# Altium integrated library Celestial Library.IntLib: 364 symbols (part 1 of 4)
Pins are listed as number, name and electrical type; pins without a type are passive.

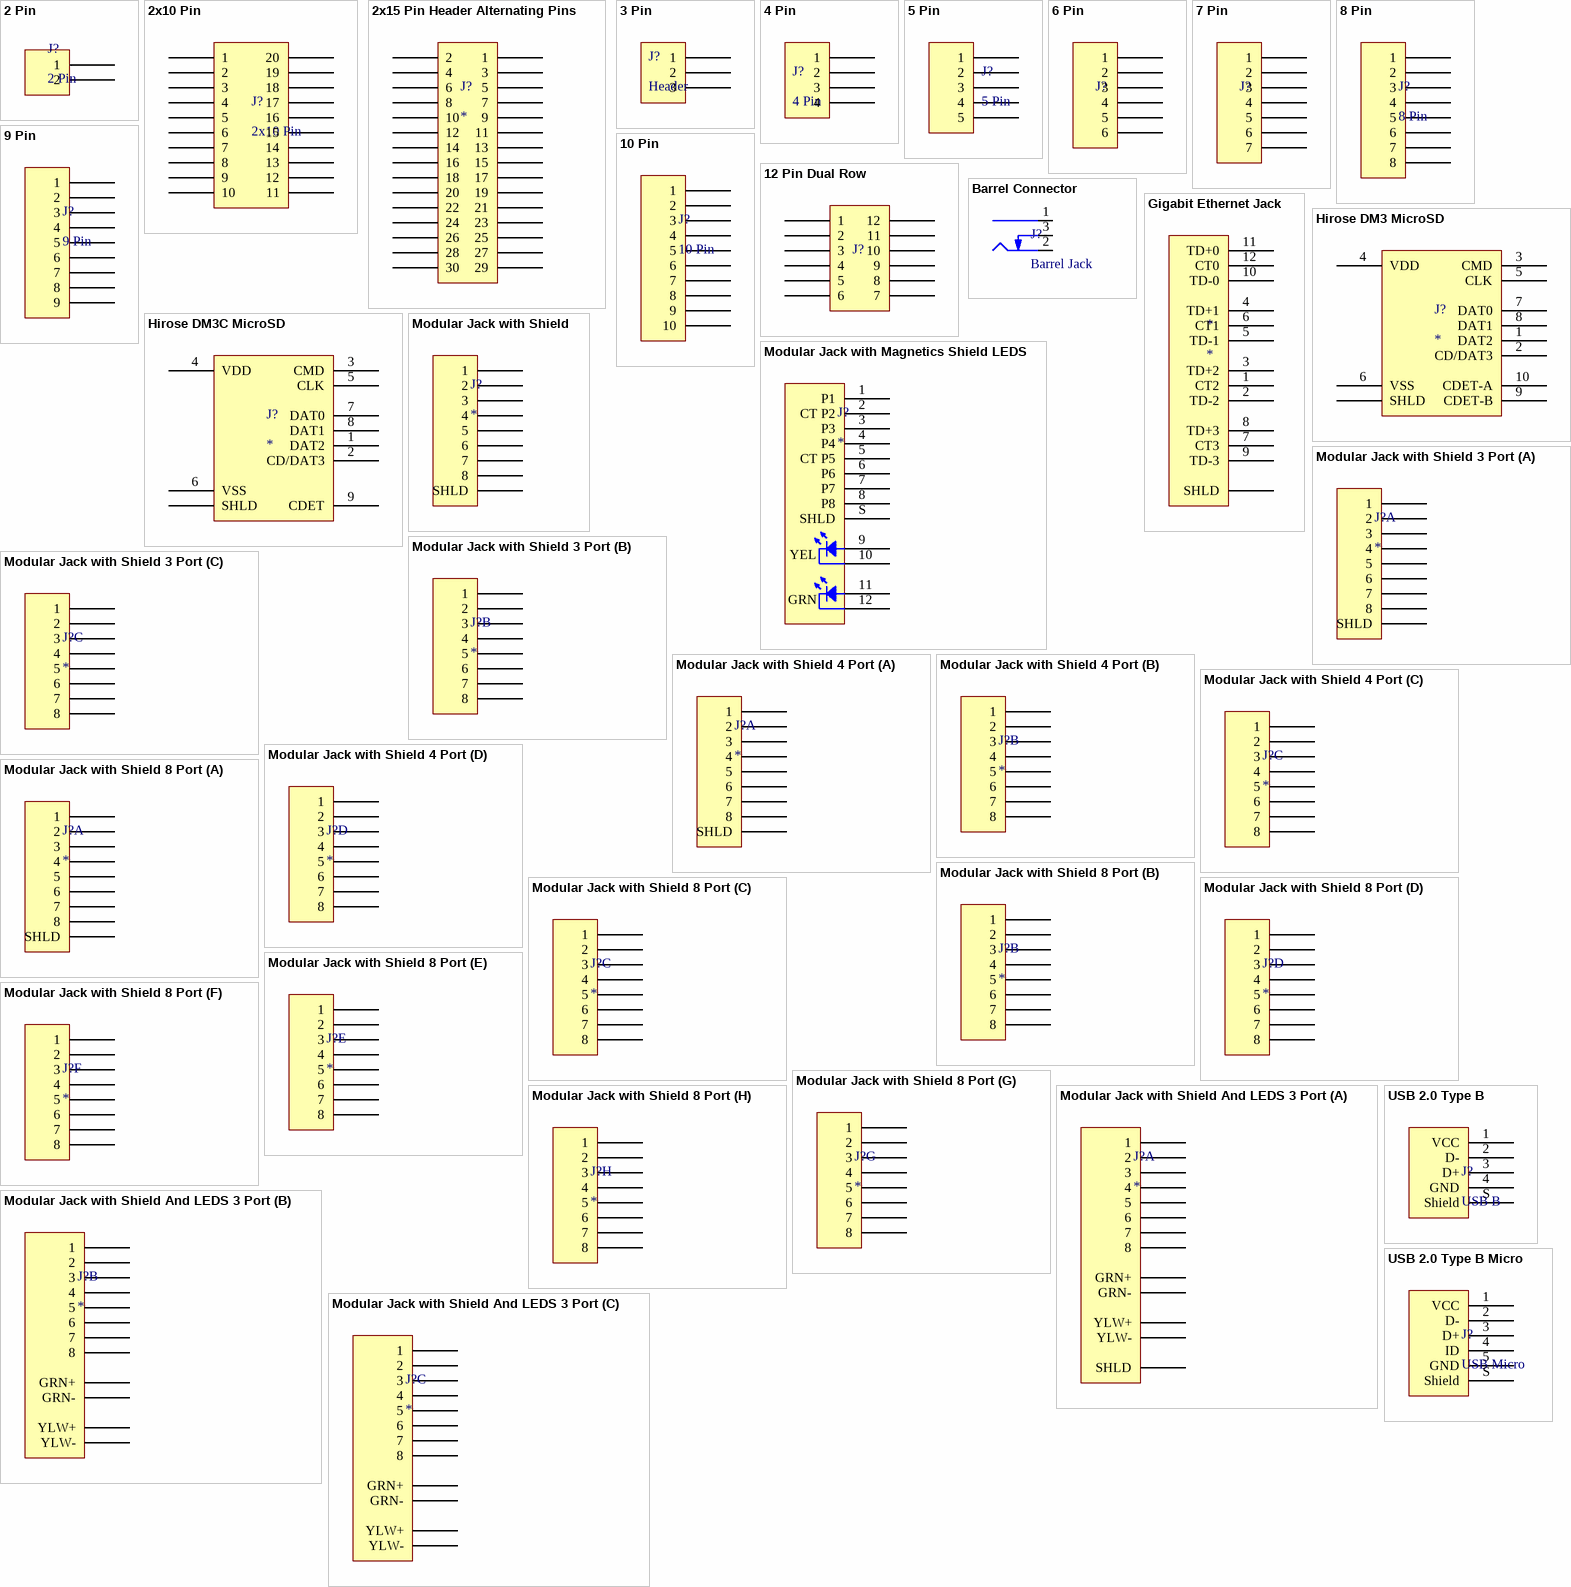
[diagram p0: symbols 2 Pin to USB 2.0 Type B Micro]

## 2 Pin
designator J?
pins: 1, 2

## 2x10 Pin
designator J?
pins: 1, 2, 3, 4, 5, 6, 7, 8, 9, 10, 11, 12, 13, 14, 15, 16, 17, 18, 19, 20

## 2x15 Pin Header Alternating Pins
designator J?
pins: 1, 2, 3, 4, 5, 6, 7, 8, 9, 10, 11, 12, 13, 14, 15, 16, 17, 18, 19, 20, 21, 22, 23, 24, 25, 26, 27, 28, 29, 30

## 3 Pin
designator J?, comment Header
pins: 1, 2, 3

## 4 Pin
designator J?
pins: 1, 2, 3, 4

## 5 Pin
designator J?
pins: 1, 2, 3, 4, 5

## 6 Pin
designator J?
pins: 1, 2, 3, 4, 5, 6

## 7 Pin
designator J?
pins: 1, 2, 3, 4, 5, 6, 7

## 8 Pin
designator J?
pins: 1, 2, 3, 4, 5, 6, 7, 8

## 9 Pin
designator J?
pins: 1, 2, 3, 4, 5, 6, 7, 8, 9

## 10 Pin
designator J?
pins: 1, 2, 3, 4, 5, 6, 7, 8, 9, 10

## 12 Pin Dual Row
designator J?
pins: 1, 2, 3, 4, 5, 6, 7, 8, 9, 10, 11, 12

## Barrel Connector
designator J?, comment Barrel Jack
pins: 1 Centre, 2 Outer, 3 SW

## Gigabit Ethernet Jack
designator *
pins: 1 CT2, 2 TD-2, 3 TD+2, 4 TD+1, 5 TD-1, 6 CT1, 7 CT3, 8 TD+3, 9 TD-3, 10 TD-0, 11 TD+0, 12 CT0, S SHLD

## Hirose DM3 MicroSD
designator J?
pins: 1 DAT2, 2 CD/DAT3, 3 CMD, 4 VDD, 5 CLK, 6 VSS, 7 DAT0, 8 DAT1, 9 CDET-B, 10 CDET-A, S SHLD

## Hirose DM3C MicroSD
designator J?
pins: 1 DAT2, 2 CD/DAT3, 3 CMD, 4 VDD, 5 CLK, 6 VSS, 7 DAT0, 8 DAT1, 9 CDET, S SHLD

## Modular Jack with Magnetics Shield LEDS
designator J?
pins: 1 P1, 2 CT P2, 3 P3, 4 P4, 5 CT P5, 6 P6, 7 P7, 8 P8, 9 P9, 10 P10, 11 P11, 12 P12, S SHLD
text: YEL; GRN

## Modular Jack with Shield
designator J?
pins: 1, 2, 3, 4, 5, 6, 7, 8, S SHLD

## Modular Jack with Shield 3 Port
designator J?
part A pins: A1 1, A2 2, A3 3, A4 4, A5 5, A6 6, A7 7, A8 8, S SHLD
part B pins: B1 1, B2 2, B3 3, B4 4, B5 5, B6 6, B7 7, B8 8
part C pins: C1 1, C2 2, C3 3, C4 4, C5 5, C6 6, C7 7, C8 8

## Modular Jack with Shield 4 Port
designator J?
part A pins: A1 1, A2 2, A3 3, A4 4, A5 5, A6 6, A7 7, A8 8, S SHLD
part B pins: B1 1, B2 2, B3 3, B4 4, B5 5, B6 6, B7 7, B8 8
part C pins: C1 1, C2 2, C3 3, C4 4, C5 5, C6 6, C7 7, C8 8
part D pins: D1 1, D2 2, D3 3, D4 4, D5 5, D6 6, D7 7, D8 8

## Modular Jack with Shield 8 Port
designator J?
part A pins: A1 1, A2 2, A3 3, A4 4, A5 5, A6 6, A7 7, A8 8, S SHLD
part B pins: B1 1, B2 2, B3 3, B4 4, B5 5, B6 6, B7 7, B8 8
part C pins: C1 1, C2 2, C3 3, C4 4, C5 5, C6 6, C7 7, C8 8
part D pins: D1 1, D2 2, D3 3, D4 4, D5 5, D6 6, D7 7, D8 8
part E pins: E1 1, E2 2, E3 3, E4 4, E5 5, E6 6, E7 7, E8 8
part F pins: F1 1, F2 2, F3 3, F4 4, F5 5, F6 6, F7 7, F8 8
part G pins: G1 1, G2 2, G3 3, G4 4, G5 5, G6 6, G7 7, G8 8
part H pins: H1 1, H2 2, H3 3, H4 4, H5 5, H6 6, H7 7, H8 8

## Modular Jack with Shield And LEDS 3 Port
designator J?
part A pins: A1 1, A2 2, A3 3, A4 4, A5 5, A6 6, A7 7, A8 8, A9 GRN-, A10 GRN+, A11 YLW-, A12 YLW+, S SHLD
part B pins: B1 1, B2 2, B3 3, B4 4, B5 5, B6 6, B7 7, B8 8, B9 GRN-, B10 GRN+, B11 YLW-, B12 YLW+
part C pins: C1 1, C2 2, C3 3, C4 4, C5 5, C6 6, C7 7, C8 8, C9 GRN-, C10 GRN+, C11 YLW-, C12 YLW+

## USB 2.0 Type B
designator J?, comment USB B
pins: 1 VCC, 2 D-, 3 D+, 4 GND, S Shield

## USB 2.0 Type B Micro
designator J?, comment USB Micro
pins: 1 VCC, 2 D-, 3 D+, 4 ID, 5 GND, S Shield

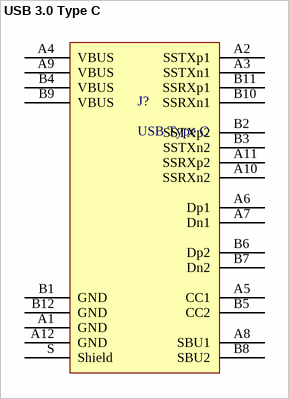
[diagram p1: symbol USB 3.0 Type C]

## USB 3.0 Type C
designator J?, comment USB Type C
pins: A1 GND, A2 SSTXp1, A3 SSTXn1, A4 VBUS, A5 CC1, A6 Dp1, A7 Dn1, A8 SBU1, A9 VBUS, A10 SSRXn2, A11 SSRXp2, A12 GND, B1 GND, B2 SSTXp2, B3 SSTXn2, B4 VBUS, B5 CC2, B6 Dp2, B7 Dn2, B8 SBU2, B9 VBUS, B10 SSRXn1, B11 SSRXp1, B12 GND, S Shield


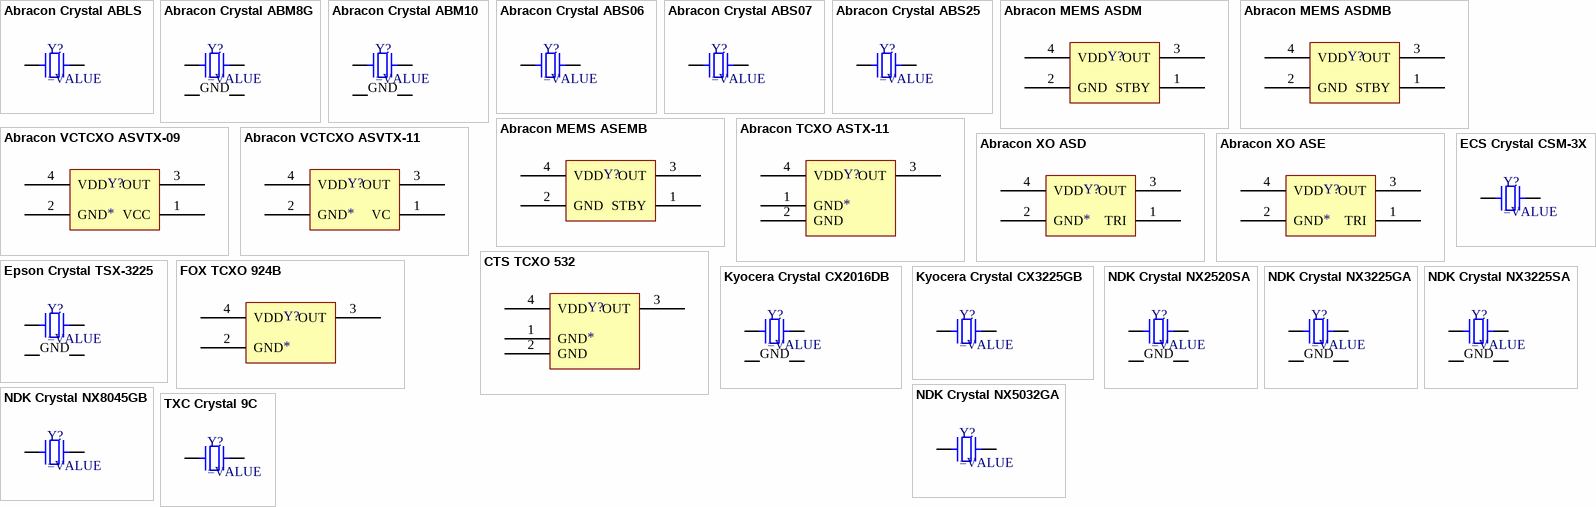
[diagram p2: symbols Abracon Crystal ABLS to TXC Crystal 9C]

## Abracon Crystal ABLS
designator Y?
SMT Crystal
pins: 1, 2

## Abracon Crystal ABM8G
designator Y?
SMT Crystal
pins: 1, 2 GND, 3, 4 GND

## Abracon Crystal ABM10
designator Y?
SMT Crystal
pins: 1, 2 GND, 3, 4 GND

## Abracon Crystal ABS06
designator Y?
SMT Crystal
pins: 1, 2

## Abracon Crystal ABS07
designator Y?
SMT Crystal
pins: 1, 2

## Abracon Crystal ABS25
designator Y?
SMT Crystal
pins: 1, 4

## Abracon MEMS ASDM
designator Y?
Pure Silicon Clock Oscillator
pins: 1 STBY, 2 GND, 3 OUT, 4 VDD

## Abracon MEMS ASDMB
designator Y?
Pure Silicon Clock Oscillator
pins: 1 STBY, 2 GND, 3 OUT, 4 VDD

## Abracon MEMS ASEMB
designator Y?
Pure Silicon Clock Oscillator
pins: 1 STBY, 2 GND, 3 OUT, 4 VDD

## Abracon TCXO ASTX-11
designator Y?
SMD CMOS Crystal Oscillator
pins: 1 GND, 2 GND, 3 OUT, 4 VDD

## Abracon VCTCXO ASVTX-09
designator Y?
SMD CMOS Crystal Oscillator
pins: 1 VCC, 2 GND, 3 OUT, 4 VDD

## Abracon VCTCXO ASVTX-11
designator Y?
SMD CMOS Crystal Oscillator
pins: 1 VC, 2 GND, 3 OUT, 4 VDD

## Abracon XO ASD
designator Y?
SMD CMOS Crystal Oscillator
pins: 1 TRI, 2 GND, 3 OUT, 4 VDD

## Abracon XO ASE
designator Y?
SMD CMOS Crystal Oscillator
pins: 1 TRI, 2 GND, 3 OUT, 4 VDD

## CTS TCXO 532
designator Y?
SMD TCXO
pins: 1 GND, 2 GND, 3 OUT, 4 VDD

## ECS Crystal CSM-3X
designator Y?
SMT Crystal
pins: 1, 2

## Epson Crystal TSX-3225
designator Y?
SMT Crystal
pins: 1, 2 GND, 3, 4 GND

## FOX TCXO 924B
designator Y?
SMD TCXO
pins: 2 GND, 3 OUT, 4 VDD

## Kyocera Crystal CX2016DB
designator Y?
SMT Crystal
pins: 1, 2 GND, 3, 4 GND

## Kyocera Crystal CX3225GB
designator Y?
SMT Crystal
pins: 1, 3

## NDK Crystal NX2520SA
designator Y?
SMT Crystal
pins: 1, 2 GND, 3, 4 GND

## NDK Crystal NX3225GA
designator Y?
SMT Crystal
pins: 1, 2 GND, 3, 4 GND

## NDK Crystal NX3225SA
designator Y?
SMT Crystal
pins: 1, 2 GND, 3, 4 GND

## NDK Crystal NX5032GA
designator Y?
SMT Crystal
pins: 1, 2

## NDK Crystal NX8045GB
designator Y?
SMT Crystal
pins: 1, 2

## TXC Crystal 9C
designator Y?
SMT Crystal
pins: 1, 2


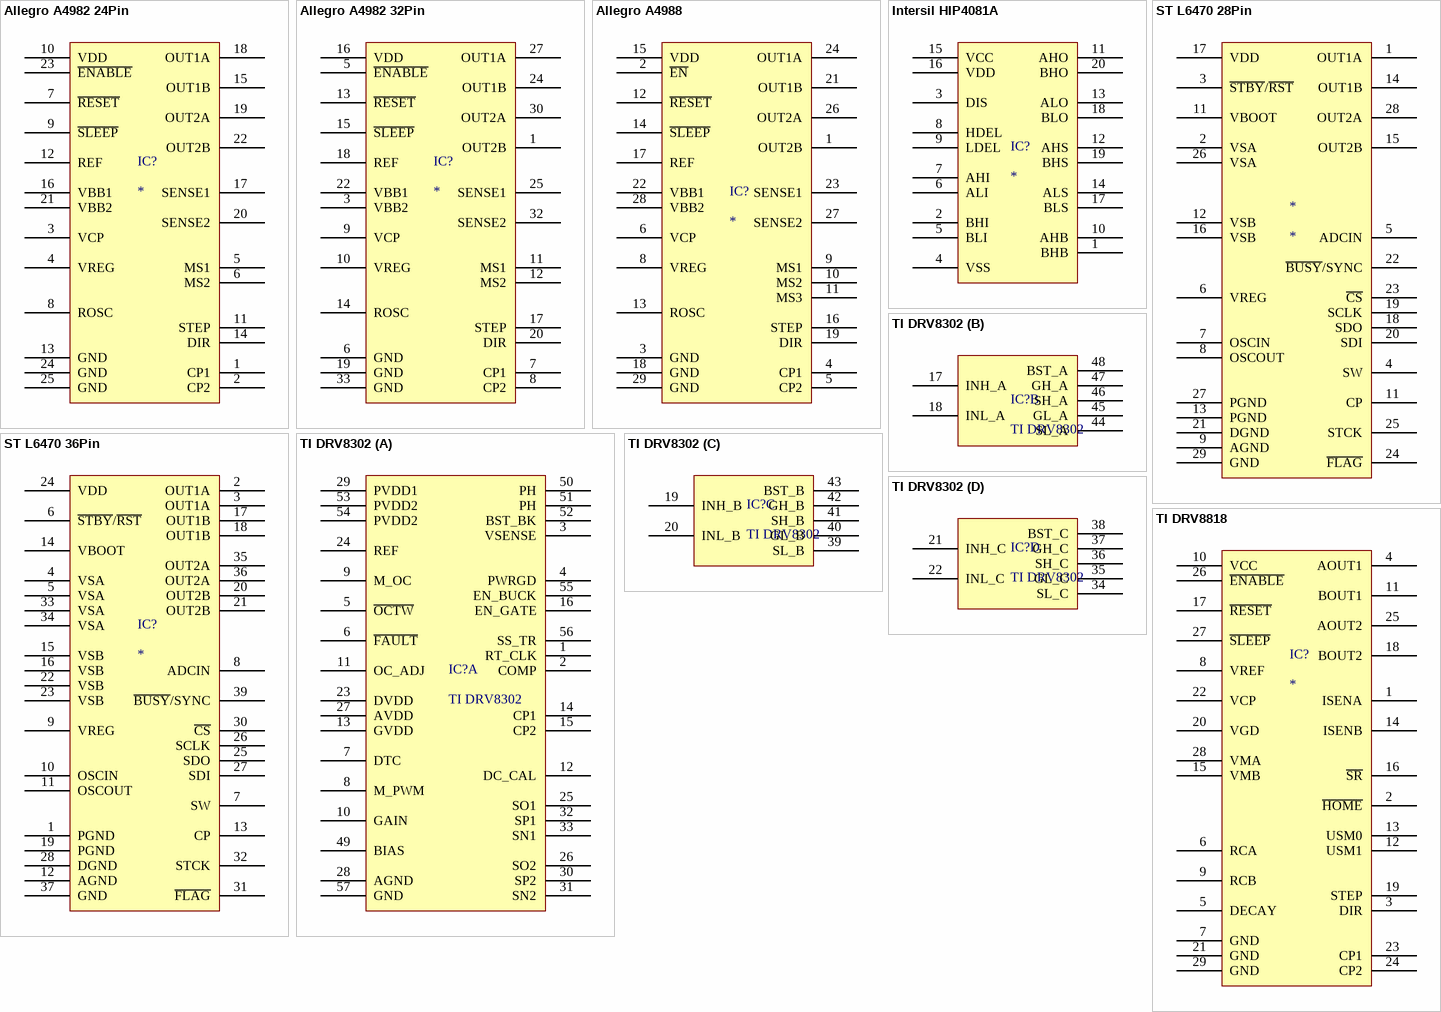
[diagram p3: symbols Allegro A4982 24Pin to TI DRV8818]

## Allegro A4982 24Pin
designator IC?
pins: 1 CP1, 2 CP2, 3 VCP, 4 VREG, 5 MS1, 6 MS2, 7 ~{RESET}, 8 ROSC, 9 ~{SLEEP}, 10 VDD, 11 STEP, 12 REF, 13 GND, 14 DIR, 15 OUT1B, 16 VBB1, 17 SENSE1, 18 OUT1A, 19 OUT2A, 20 SENSE2, 21 VBB2, 22 OUT2B, 23 ~{ENABLE}, 24 GND, 25 GND

## Allegro A4982 32Pin
designator IC?
pins: 1 OUT2B, 3 VBB2, 5 ~{ENABLE}, 6 GND, 7 CP1, 8 CP2, 9 VCP, 10 VREG, 11 MS1, 12 MS2, 13 ~{RESET}, 14 ROSC, 15 ~{SLEEP}, 16 VDD, 17 STEP, 18 REF, 19 GND, 20 DIR, 22 VBB1, 24 OUT1B, 25 SENSE1, 27 OUT1A, 30 OUT2A, 32 SENSE2, 33 GND

## Allegro A4988
designator IC?
pins: 1 OUT2B, 2 ~{EN}, 3 GND, 4 CP1, 5 CP2, 6 VCP, 8 VREG, 9 MS1, 10 MS2, 11 MS3, 12 ~{RESET}, 13 ROSC, 14 ~{SLEEP}, 15 VDD, 16 STEP, 17 REF, 18 GND, 19 DIR, 21 OUT1B, 22 VBB1, 23 SENSE1, 24 OUT1A, 26 OUT2A, 27 SENSE2, 28 VBB2, 29 GND

## Intersil HIP4081A
designator IC?
pins: 1 BHB, 2 BHI, 3 DIS, 4 VSS, 5 BLI, 6 ALI, 7 AHI, 8 HDEL, 9 LDEL, 10 AHB, 11 AHO, 12 AHS, 13 ALO, 14 ALS, 15 VCC, 16 VDD, 17 BLS, 18 BLO, 19 BHS, 20 BHO

## ST L6470 28Pin
designator *
pins: 1 OUT1A, 2 VSA, 3 ~{STBY}/~{RST}, 4 SW, 5 ADCIN, 6 VREG, 7 OSCIN, 8 OSCOUT, 9 AGND, 11 CP, 11 VBOOT, 12 VSB, 13 PGND, 14 OUT1B, 15 OUT2B, 16 VSB, 17 VDD, 18 SDO, 19 SCLK, 20 SDI, 21 DGND, 22 ~{BUSY}/SYNC, 23 ~{CS}, 24 ~{FLAG}, 25 STCK, 26 VSA, 27 PGND, 28 OUT2A, 29 GND

## ST L6470 36Pin
designator IC?
pins: 1 PGND, 2 OUT1A, 3 OUT1A, 4 VSA, 5 VSA, 6 ~{STBY}/~{RST}, 7 SW, 8 ADCIN, 9 VREG, 10 OSCIN, 11 OSCOUT, 12 AGND, 13 CP, 14 VBOOT, 15 VSB, 16 VSB, 17 OUT1B, 18 OUT1B, 19 PGND, 20 OUT2B, 21 OUT2B, 22 VSB, 23 VSB, 24 VDD, 25 SDO, 26 SCLK, 27 SDI, 28 DGND, 30 ~{CS}, 31 ~{FLAG}, 32 STCK, 33 VSA, 34 VSA, 35 OUT2A, 36 OUT2A, 37 GND, 39 ~{BUSY}/SYNC

## TI DRV8302
designator IC?
Three Phase Pre-Driver with Dual Current Shunt Amplifiers and Buck Regulator-Hardware Controlled
part A pins: 1 RT_CLK, 2 COMP, 3 VSENSE, 4 PWRGD, 5 ~{OCTW}, 6 ~{FAULT}, 7 DTC, 8 M_PWM, 9 M_OC, 10 GAIN, 11 OC_ADJ, 12 DC_CAL, 13 GVDD, 14 CP1, 15 CP2, 16 EN_GATE, 23 DVDD, 24 REF, 25 SO1, 26 SO2, 27 AVDD, 28 AGND, 29 PVDD1, 30 SP2, 31 SN2, 32 SP1, 33 SN1, 49 BIAS, 50 PH, 51 PH, 52 BST_BK, 53 PVDD2, 54 PVDD2, 55 EN_BUCK, 56 SS_TR, 57 GND
part B pins: 17 INH_A, 18 INL_A, 44 SL_A, 45 GL_A, 46 SH_A, 47 GH_A, 48 BST_A
part C pins: 19 INH_B, 20 INL_B, 39 SL_B, 40 GL_B, 41 SH_B, 42 GH_B, 43 BST_B
part D pins: 21 INH_C, 22 INL_C, 34 SL_C, 35 GL_C, 36 SH_C, 37 GH_C, 38 BST_C

## TI DRV8818
designator IC?
pins: 1 ISENA, 2 ~{HOME}, 3 DIR, 4 AOUT1, 5 DECAY, 6 RCA, 7 GND, 8 VREF, 9 RCB, 10 VCC, 11 BOUT1, 12 USM1, 13 USM0, 14 ISENB, 15 VMB, 16 ~{SR}, 17 ~{RESET}, 18 BOUT2, 19 STEP, 20 VGD, 21 GND, 22 VCP, 23 CP1, 24 CP2, 25 AOUT2, 26 ~{ENABLE}, 27 ~{SLEEP}, 28 VMA, 29 GND


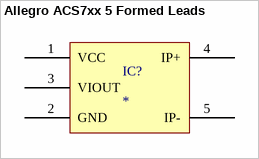
[diagram p4: symbol Allegro ACS7xx 5 Formed Leads]

## Allegro ACS7xx 5 Formed Leads
designator IC?
pins: 1 VCC, 2 GND, 3 VIOUT, 4 IP+, 5 IP-


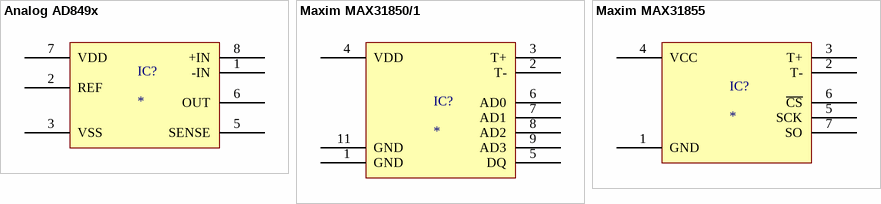
[diagram p5: symbols Analog AD849x to Maxim MAX31855]

## Analog AD849x
designator IC?
pins: 1 -IN, 2 REF, 3 VSS, 5 SENSE, 6 OUT, 7 VDD, 8 +IN

## Maxim MAX31850/1
designator IC?
pins: 1 GND, 2 T-, 3 T+, 4 VDD, 5 DQ, 6 AD0, 7 AD1, 8 AD2, 9 AD3, 11 GND

## Maxim MAX31855
designator IC?
pins: 1 GND, 2 T-, 3 T+, 4 VCC, 5 SCK, 6 ~{CS}, 7 SO


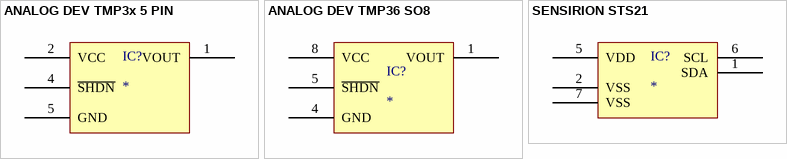
[diagram p6: symbols ANALOG DEV TMP3x 5 PIN to SENSIRION STS21]

## ANALOG DEV TMP3x 5 PIN
designator IC?
pins: 1 VOUT, 2 VCC, 4 ~{SHDN}, 5 GND

## ANALOG DEV TMP36 SO8
designator IC?
pins: 1 VOUT, 4 GND, 5 ~{SHDN}, 8 VCC

## SENSIRION STS21
designator IC?
pins: 1 SDA, 2 VSS, 5 VDD, 6 SCL, 7 VSS


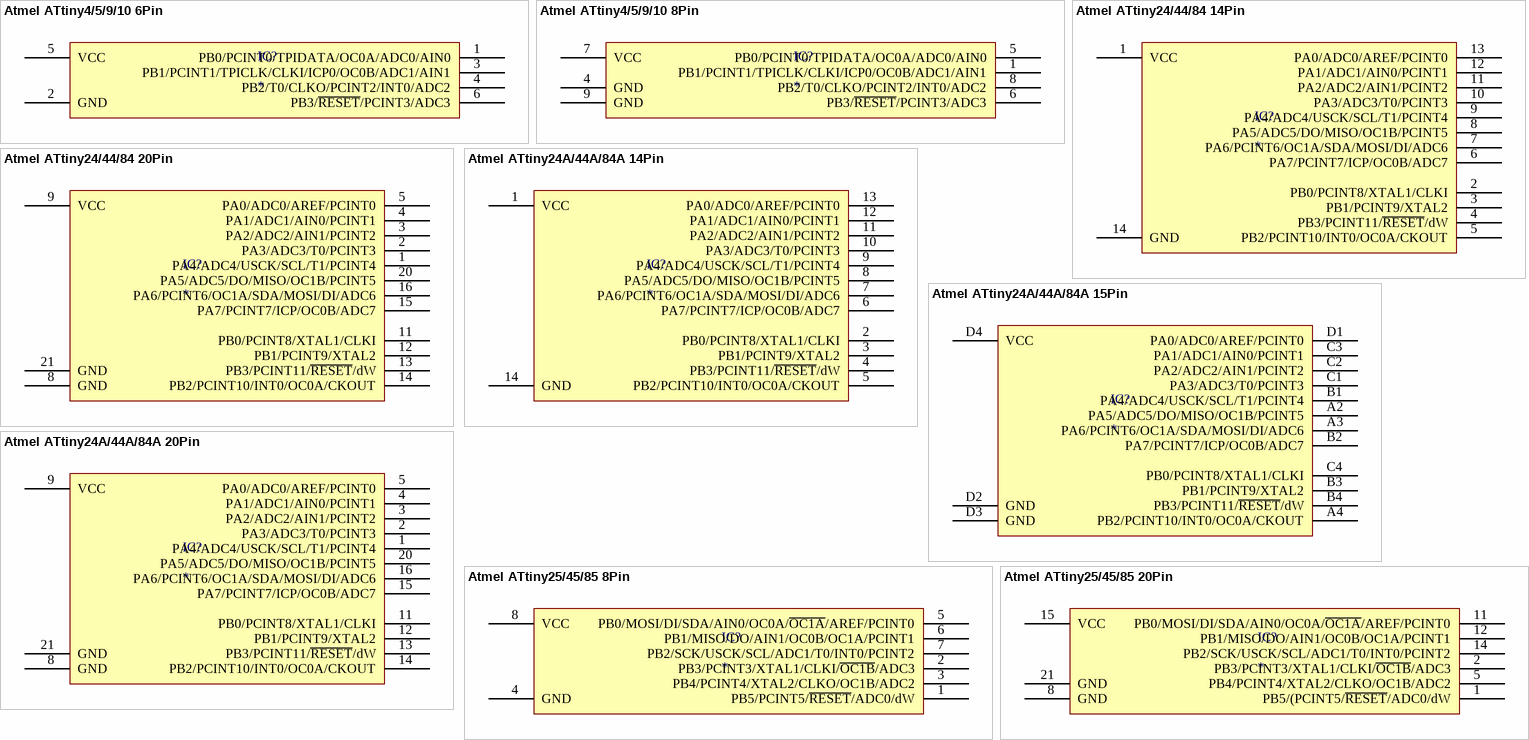
[diagram p7: symbols Atmel ATtiny4/5/9/10 6Pin to Atmel ATtiny25/45/85 20Pin]

## Atmel ATtiny4/5/9/10 6Pin
designator IC?
Atmel 8-bit AVR Microcontroller with 512/1024  Bytes In-System Programmable Flash
pins: 1 PB0/PCINT0/TPIDATA/OC0A/ADC0/AIN0, 2 GND, 3 PB1/PCINT1/TPICLK/CLKI/ICP0/OC0B/ADC1/AIN1, 4 PB2/T0/CLKO/PCINT2/INT0/ADC2, 5 VCC, 6 PB3/~{RESET}/PCINT3/ADC3

## Atmel ATtiny4/5/9/10 8Pin
designator IC?
Atmel 8-bit AVR Microcontroller with 512/1024  Bytes In-System Programmable Flash
pins: 1 PB1/PCINT1/TPICLK/CLKI/ICP0/OC0B/ADC1/AIN1, 4 GND, 5 PB0/PCINT0/TPIDATA/OC0A/ADC0/AIN0, 6 PB3/~{RESET}/PCINT3/ADC3, 7 VCC, 8 PB2/T0/CLKO/PCINT2/INT0/ADC2, 9 GND

## Atmel ATtiny24/44/84 14Pin
designator IC?
8-bit  Microcontroller  with 2K/4K/8K  Bytes In-System  Programmable  Flash
pins: 1 VCC, 2 PB0/PCINT8/XTAL1/CLKI, 3 PB1/PCINT9/XTAL2, 4 PB3/PCINT11/~{RESET}/dW, 5 PB2/PCINT10/INT0/OC0A/CKOUT, 6 PA7/PCINT7/ICP/OC0B/ADC7, 7 PA6/PCINT6/OC1A/SDA/MOSI/DI/ADC6, 8 PA5/ADC5/DO/MISO/OC1B/PCINT5, 9 PA4/ADC4/USCK/SCL/T1/PCINT4, 10 PA3/ADC3/T0/PCINT3, 11 PA2/ADC2/AIN1/PCINT2, 12 PA1/ADC1/AIN0/PCINT1, 13 PA0/ADC0/AREF/PCINT0, 14 GND

## Atmel ATtiny24/44/84 20Pin
designator IC?
8-bit  Microcontroller  with 2K/4K/8K  Bytes In-System  Programmable  Flash
pins: 1 PA4/ADC4/USCK/SCL/T1/PCINT4, 2 PA3/ADC3/T0/PCINT3, 3 PA2/ADC2/AIN1/PCINT2, 4 PA1/ADC1/AIN0/PCINT1, 5 PA0/ADC0/AREF/PCINT0, 8 GND, 9 VCC, 11 PB0/PCINT8/XTAL1/CLKI, 12 PB1/PCINT9/XTAL2, 13 PB3/PCINT11/~{RESET}/dW, 14 PB2/PCINT10/INT0/OC0A/CKOUT, 15 PA7/PCINT7/ICP/OC0B/ADC7, 16 PA6/PCINT6/OC1A/SDA/MOSI/DI/ADC6, 20 PA5/ADC5/DO/MISO/OC1B/PCINT5, 21 GND

## Atmel ATtiny24A/44A/84A 14Pin
designator IC?
8-bit  Microcontroller  with 2K/4K/8K  Bytes In-System  Programmable  Flash
pins: 1 VCC, 2 PB0/PCINT8/XTAL1/CLKI, 3 PB1/PCINT9/XTAL2, 4 PB3/PCINT11/~{RESET}/dW, 5 PB2/PCINT10/INT0/OC0A/CKOUT, 6 PA7/PCINT7/ICP/OC0B/ADC7, 7 PA6/PCINT6/OC1A/SDA/MOSI/DI/ADC6, 8 PA5/ADC5/DO/MISO/OC1B/PCINT5, 9 PA4/ADC4/USCK/SCL/T1/PCINT4, 10 PA3/ADC3/T0/PCINT3, 11 PA2/ADC2/AIN1/PCINT2, 12 PA1/ADC1/AIN0/PCINT1, 13 PA0/ADC0/AREF/PCINT0, 14 GND

## Atmel ATtiny24A/44A/84A 15Pin
designator IC?
8-bit  Microcontroller  with 2K/4K/8K  Bytes In-System  Programmable  Flash
pins: A2 PA5/ADC5/DO/MISO/OC1B/PCINT5, A3 PA6/PCINT6/OC1A/SDA/MOSI/DI/ADC6, A4 PB2/PCINT10/INT0/OC0A/CKOUT, B1 PA4/ADC4/USCK/SCL/T1/PCINT4, B2 PA7/PCINT7/ICP/OC0B/ADC7, B3 PB1/PCINT9/XTAL2, B4 PB3/PCINT11/~{RESET}/dW, C1 PA3/ADC3/T0/PCINT3, C2 PA2/ADC2/AIN1/PCINT2, C3 PA1/ADC1/AIN0/PCINT1, C4 PB0/PCINT8/XTAL1/CLKI, D1 PA0/ADC0/AREF/PCINT0, D2 GND, D3 GND, D4 VCC

## Atmel ATtiny24A/44A/84A 20Pin
designator IC?
8-bit  Microcontroller  with 2K/4K/8K  Bytes In-System  Programmable  Flash
pins: 1 PA4/ADC4/USCK/SCL/T1/PCINT4, 2 PA3/ADC3/T0/PCINT3, 3 PA2/ADC2/AIN1/PCINT2, 4 PA1/ADC1/AIN0/PCINT1, 5 PA0/ADC0/AREF/PCINT0, 8 GND, 9 VCC, 11 PB0/PCINT8/XTAL1/CLKI, 12 PB1/PCINT9/XTAL2, 13 PB3/PCINT11/~{RESET}/dW, 14 PB2/PCINT10/INT0/OC0A/CKOUT, 15 PA7/PCINT7/ICP/OC0B/ADC7, 16 PA6/PCINT6/OC1A/SDA/MOSI/DI/ADC6, 20 PA5/ADC5/DO/MISO/OC1B/PCINT5, 21 GND

## Atmel ATtiny25/45/85 8Pin
designator IC?
Atmel 8-bit AVR Microcontroller with 2/4/8K  Bytes In-System Programmable Flash
pins: 1 PB5/PCINT5/~{RESET}/ADC0/dW, 2 PB3/PCINT3/XTAL1/CLKI/~{OC1B}/ADC3, 3 PB4/PCINT4/XTAL2/CLKO/OC1B/ADC2, 4 GND, 5 PB0/MOSI/DI/SDA/AIN0/OC0A/~{OC1A}/AREF/PCINT0, 6 PB1/MISO/DO/AIN1/OC0B/OC1A/PCINT1, 7 PB2/SCK/USCK/SCL/ADC1/T0/INT0/PCINT2, 8 VCC

## Atmel ATtiny25/45/85 20Pin
designator IC?
Atmel 8-bit AVR Microcontroller with 2/4/8K  Bytes In-System Programmable Flash
pins: 1 PB5/(PCINT5/~{RESET}/ADC0/dW, 2 PB3/PCINT3/XTAL1/CLKI/~{OC1B}/ADC3, 5 PB4/PCINT4/XTAL2/CLKO/OC1B/ADC2, 8 GND, 11 PB0/MOSI/DI/SDA/AIN0/OC0A/~{OC1A}/AREF/PCINT0, 12 PB1/MISO/DO/AIN1/OC0B/OC1A/PCINT1, 14 PB2/SCK/USCK/SCL/ADC1/T0/INT0/PCINT2, 15 VCC, 21 GND


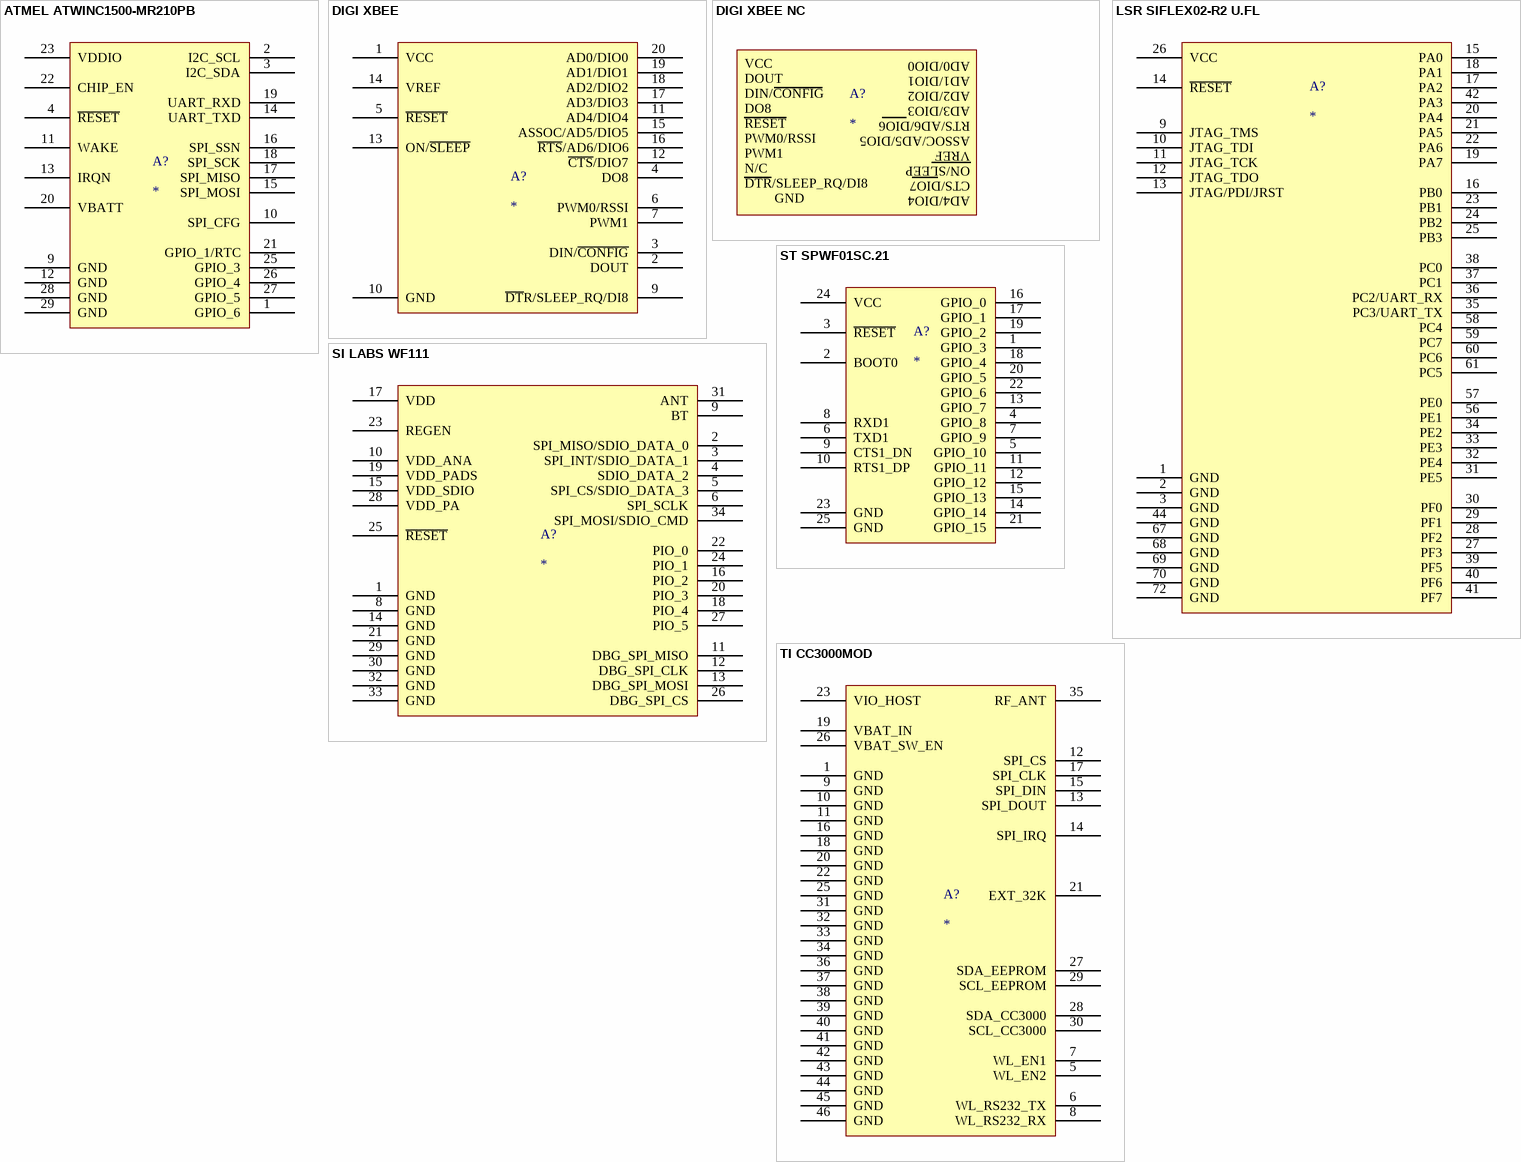
[diagram p8: symbols ATMEL ATWINC1500-MR210PB to TI CC3000MOD]

## ATMEL ATWINC1500-MR210PB
designator A?
pins: 1 GPIO_6, 2 I2C_SCL, 3 I2C_SDA, 4 ~{RESET}, 9 GND, 10 SPI_CFG, 11 WAKE, 12 GND, 13 IRQN, 14 UART_TXD, 15 SPI_MOSI, 16 SPI_SSN, 17 SPI_MISO, 18 SPI_SCK, 19 UART_RXD, 20 VBATT, 21 GPIO_1/RTC, 22 CHIP_EN, 23 VDDIO, 25 GPIO_3, 26 GPIO_4, 27 GPIO_5, 28 GND, 29 GND

## DIGI XBEE
designator A?
pins: 1 VCC, 2 DOUT, 3 DIN/~{CONFIG}, 4 DO8, 5 ~{RESET}, 6 PWM0/RSSI, 7 PWM1, 9 ~{DT}R/SLEEP_RQ/DI8, 10 GND, 11 AD4/DIO4, 12 ~{CTS}/DIO7, 13 ON/~{SLEEP}, 14 VREF, 15 ASSOC/AD5/DIO5, 16 ~{RTS}/AD6/DIO6, 17 AD3/DIO3, 18 AD2/DIO2, 19 AD1/DIO1, 20 AD0/DIO0

## DIGI XBEE NC
designator A?
text: AD0/DIO0; VCC; AD1/DIO1; DOUT; AD2/DIO2; DIN/CONFIG; AD3/DIO3; DO8; RTS/AD6/DIO6; RESET; ASSOC/AD5/DIO5; PWM0/RSSI; VREF; PWM1; ON/SLEEP; N/C; CTS/DIO7; DTR/SLEEP_RQ/DI8; AD4/DIO4; GND

## LSR SIFLEX02-R2 U.FL
designator A?
pins: 1 GND, 2 GND, 3 GND, 9 JTAG_TMS, 10 JTAG_TDI, 11 JTAG_TCK, 12 JTAG_TDO, 13 JTAG/PDI/JRST, 14 ~{RESET}, 15 PA0, 16 PB0, 17 PA2, 18 PA1, 19 PA7, 20 PA4, 21 PA5, 22 PA6, 23 PB1, 24 PB2, 25 PB3, 26 VCC, 27 PF3, 28 PF2, 29 PF1, 30 PF0, 31 PE5, 32 PE4, 33 PE3, 34 PE2, 35 PC3/UART_TX, 36 PC2/UART_RX, 37 PC1, 38 PC0, 39 PF5, 40 PF6, 41 PF7, 42 PA3, 44 GND, 56 PE1, 57 PE0, 58 PC4, 59 PC7, 60 PC6, 61 PC5, 67 GND, 68 GND, 69 GND, 70 GND, 72 GND

## SI LABS WF111
designator A?
pins: 1 GND, 2 SPI_MISO/SDIO_DATA_0, 3 SPI_INT/SDIO_DATA_1, 4 SDIO_DATA_2, 5 SPI_CS/SDIO_DATA_3, 6 SPI_SCLK, 8 GND, 9 BT, 10 VDD_ANA, 11 DBG_SPI_MISO, 12 DBG_SPI_CLK, 13 DBG_SPI_MOSI, 14 GND, 15 VDD_SDIO, 16 PIO_2, 17 VDD, 18 PIO_4, 19 VDD_PADS, 20 PIO_3, 21 GND, 22 PIO_0, 23 REGEN, 24 PIO_1, 25 ~{RESET}, 26 DBG_SPI_CS, 27 PIO_5, 28 VDD_PA, 29 GND, 30 GND, 31 ANT, 32 GND, 33 GND, 34 SPI_MOSI/SDIO_CMD

## ST SPWF01SC.21
designator A?
pins: 1 GPIO_3, 2 BOOT0, 3 ~{RESET}, 4 GPIO_8, 5 GPIO_10, 6 TXD1, 7 GPIO_9, 8 RXD1, 9 CTS1_DN, 10 RTS1_DP, 11 GPIO_11, 12 GPIO_12, 13 GPIO_7, 14 GPIO_14, 15 GPIO_13, 16 GPIO_0, 17 GPIO_1, 18 GPIO_4, 19 GPIO_2, 20 GPIO_5, 21 GPIO_15, 22 GPIO_6, 23 GND, 24 VCC, 25 GND

## TI CC3000MOD
designator A?
pins: 1 GND, 5 WL_EN2, 6 WL_RS232_TX, 7 WL_EN1, 8 WL_RS232_RX, 9 GND, 10 GND, 11 GND, 12 SPI_CS, 13 SPI_DOUT, 14 SPI_IRQ, 15 SPI_DIN, 16 GND, 17 SPI_CLK, 18 GND, 19 VBAT_IN, 20 GND, 21 EXT_32K, 22 GND, 23 VIO_HOST, 25 GND, 26 VBAT_SW_EN, 27 SDA_EEPROM, 28 SDA_CC3000, 29 SCL_EEPROM, 30 SCL_CC3000, 31 GND, 32 GND, 33 GND, 34 GND, 35 RF_ANT, 36 GND, 37 GND, 38 GND, 39 GND, 40 GND, 41 GND, 42 GND, 43 GND, 44 GND, 45 GND, 46 GND, GND 40 hidden to Passive


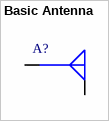
[diagram p9: symbol Basic Antenna]

## Basic Antenna
designator A?
pins: G, S


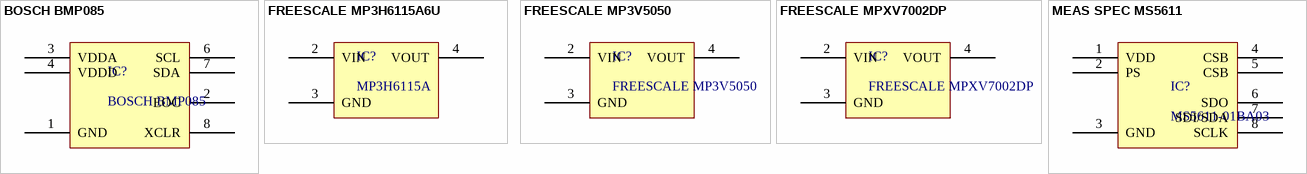
[diagram p10: symbols BOSCH BMP085 to MEAS SPEC MS5611]

## BOSCH BMP085
designator IC?
Bosch BMP085 Digital pressure sensor
pins: 1 GND "Desc1", 2 EOC "Desc1", 3 VDDA "Desc1", 4 VDDD "Desc1", 6 SCL "Desc1", 7 SDA "Desc1", 8 XCLR "Desc1"

## FREESCALE MP3H6115A6U
designator IC?, comment MP3H6115A
High Temperature Accuracy  Integrated Silicon Pressure Sensor  for Measuring Absolute Pressure,  On-Chip Signal Conditioned,  Temperature Compensated and  Calibrated
pins: 2 VIN, 3 GND, 4 VOUT

## FREESCALE MP3V5050
designator IC?
0 to 50 kPa, Differential,  and Gauge Pressure Sensor
pins: 2 VIN, 3 GND, 4 VOUT

## FREESCALE MPXV7002DP
designator IC?
High Temperature Accuracy  Integrated Silicon Pressure Sensor  for Measuring Absolute Pressure,  On-Chip Signal Conditioned,  Temperature Compensated and  Calibrated
pins: 2 VIN, 3 GND, 4 VOUT

## MEAS SPEC MS5611
designator IC?, comment MS5611-01BA03
pins: 1 VDD "Positive supply voltage", 2 PS "Protocol select - PS high I2C, PS low SPI", 3 GND "Ground", 4 CSB "Chip select", 5 CSB "Chip select", 6 SDO "Serial data output", 7 SDI/SDA "Serial Data input/I2C data IO", 8 SCLK "Serial Data Clock"


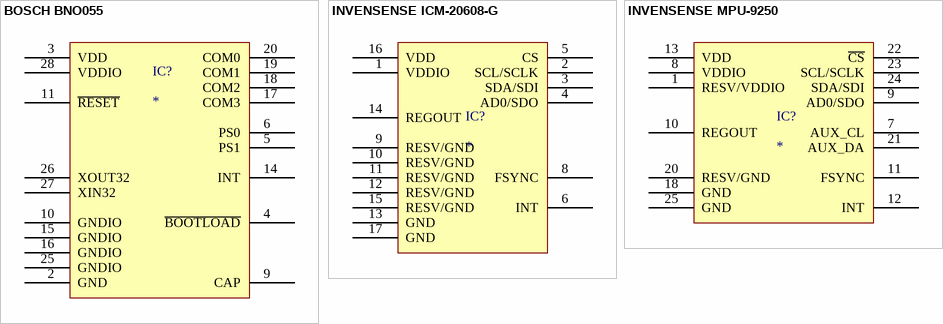
[diagram p11: symbols BOSCH BNO055 to INVENSENSE MPU-9250]

## BOSCH BNO055
designator IC?
pins: 2 GND, 3 VDD, 4 ~{BOOTL}~{OAD}, 5 PS1, 6 PS0, 9 CAP, 10 GNDIO, 11 ~{RESET}, 14 INT, 15 GNDIO, 16 GNDIO, 17 COM3, 18 COM2, 19 COM1, 20 COM0, 25 GNDIO, 26 XOUT32, 27 XIN32, 28 VDDIO

## INVENSENSE ICM-20608-G
designator IC?
pins: 1 VDDIO, 2 SCL/SCLK, 3 SDA/SDI, 4 AD0/SDO, 5 CS, 6 INT, 8 FSYNC, 9 RESV/GND, 10 RESV/GND, 11 RESV/GND, 12 RESV/GND, 13 GND, 14 REGOUT, 15 RESV/GND, 16 VDD, 17 GND

## INVENSENSE MPU-9250
designator IC?
pins: 1 RESV/VDDIO, 7 AUX_CL, 8 VDDIO, 9 AD0/SDO, 10 REGOUT, 11 FSYNC, 12 INT, 13 VDD, 18 GND, 20 RESV/GND, 21 AUX_DA, 22 ~{CS}, 23 SCL/SCLK, 24 SDA/SDI, 25 GND


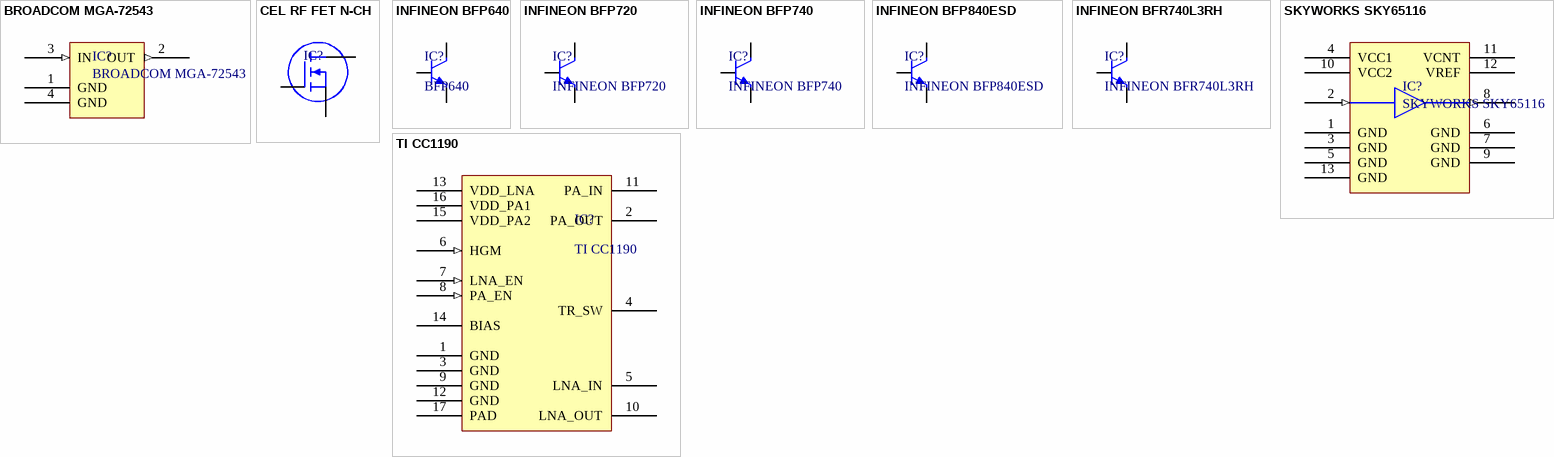
[diagram p12: symbols BROADCOM MGA-72543 to TI CC1190]

## BROADCOM MGA-72543
designator IC?
PHEMT* Low Noise Amplifi er with Bypass Switch
pins: 1 GND "Desc1", 2 OUT (out) "Desc1", 3 IN (in) "Desc1", 4 GND "Desc1"

## CEL RF FET N-CH
designator IC?
pins: 1 S, 2 D, 3 S, 4 G

## INFINEON BFP640
designator IC?, comment BFP640
NPN Silicon Germanium RF Transistor
pins: 1 B, 2 E, 3 C, 4 E

## INFINEON BFP720
designator IC?
NPN Silicon Germanium RF Transistor
pins: 1 B, 2 E, 3 C, 4 E

## INFINEON BFP740
designator IC?
NPN Silicon Germanium RF Transistor
pins: 1 B, 2 E, 3 C, 4 E

## INFINEON BFP840ESD
designator IC?
NPN Silicon Germanium RF Transistor
pins: 1 B, 2 E, 3 C, 4 E

## INFINEON BFR740L3RH
designator IC?
NPN Silicon Germanium RF Transistor
pins: 1 B, 2 C, 3 E

## SKYWORKS SKY65116
designator IC?
390-500 MHz Linear Power Amplifier
footprint SKY65116 (QFN, 12-Leads, Body 8.4x8.4mm (max), Pitch 1.91mm, IPC High Density)
pins: 1 GND "Desc1", 2 IN (in) "Desc1", 3 GND "Desc1", 4 VCC1 "Desc1", 5 GND "Desc1", 6 GND "Desc1", 7 GND "Desc1", 8 OUT (out) "Desc1", 9 GND "Desc1", 10 VCC2 "Desc1", 11 VCNT "Desc1", 12 VREF "Desc1", 13 GND "Desc1"

## TI CC1190
designator IC?
850-950MHz RF Front end
pins: 1 GND "Desc1", 2 PA_OUT "Desc1", 3 GND "Desc1", 4 TR_SW "Desc1", 5 LNA_IN "Desc1", 6 HGM (in) "Desc1", 7 LNA_EN (in) "Desc1", 8 PA_EN (in) "Desc1", 9 GND "Desc1", 10 LNA_OUT "Desc1", 11 PA_IN "Desc1", 12 GND "Desc1", 13 VDD_LNA "Desc1", 14 BIAS "Desc1", 15 VDD_PA2 "Desc1", 16 VDD_PA1 "Desc1", 17 PAD "Desc1"


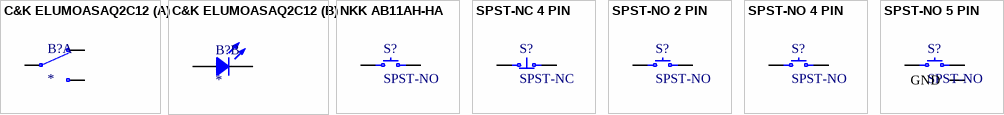
[diagram p13: symbols C&K ELUMOASAQ2C12 to SPST-NO 5 PIN]

## C&K ELUMOASAQ2C12
designator B?
part A pins: 2 NO, 3 C, 4 NC
part B pins: 1 C, 5 A

## NKK AB11AH-HA
designator S?, comment SPST-NO
pins: 1, 3

## SPST-NC 4 PIN
designator S?, comment SPST-NC
pins: 1, 2, 3, 4

## SPST-NO 2 PIN
designator S?, comment SPST-NO
pins: 1, 2

## SPST-NO 4 PIN
designator S?, comment SPST-NO
pins: 1, 2, 3, 4

## SPST-NO 5 PIN
designator S?, comment SPST-NO
pins: 1, 2, 3, 4, 5 GND


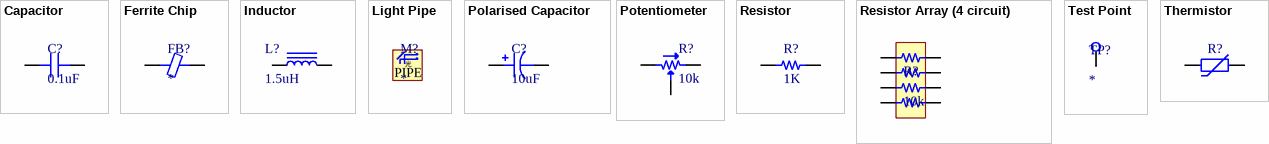
[diagram p14: symbols Capacitor to Thermistor]

## Capacitor
designator C?, comment 0.1uF
SMT Capacitor; Value: 0.1uF
pins: 1, 2

## Ferrite Chip
designator FB?
SMT Ferrite Chip
pins: 1, 2

## Inductor
designator L?, comment 1.5uH
SMT Inductor; Value: 1.5uH
pins: 1, 2

## Light Pipe
designator M?
text: 光; PIPE

## Polarised Capacitor
designator C?, comment 10uF
SMT Polarised Capacitor; Value: 10uF
pins: 1, 2

## Potentiometer
designator R?, comment 10k
Potentiometer; Value: 10k
pins: 1, 2, 3

## Resistor
designator R?, comment 1K
SMT Resistor; Value: 1K
pins: 1, 2

## Resistor Array (4 circuit)
designator R?, comment 10k
SMT Resistor Array; Value: 10k
pins: 1, 2, 3, 4, 5, 6, 7, 8

## Test Point
designator TP?
pins: 1 TP

## Thermistor
designator R?
SMT Resistor; Value: ="Resistance in Ohms @ 25C"
pins: 1, 2


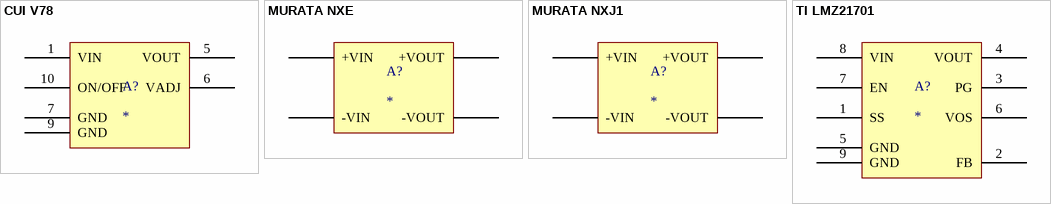
[diagram p15: symbols CUI V78 to TI LMZ21701]

## CUI V78
designator A?
pins: 1 VIN, 5 VOUT, 6 VADJ, 7 GND, 9 GND, 10 ON/OFF

## MURATA NXE
designator A?
pins: 1 -VIN, 3 +VIN, 7 -VOUT, 8 +VOUT

## MURATA NXJ1
designator A?
pins: 1 -VIN, 3 +VIN, 7 -VOUT, 8 +VOUT

## TI LMZ21701
designator A?
pins: 1 SS, 2 FB, 3 PG, 4 VOUT, 5 GND, 6 VOS, 7 EN, 8 VIN, 9 GND


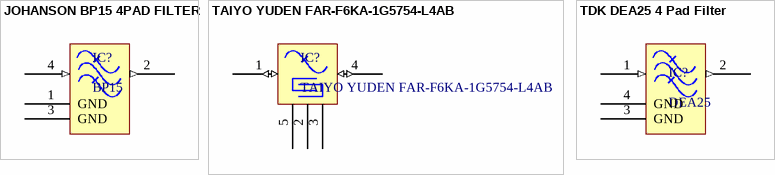
[diagram p16: symbols JOHANSON BP15 4PAD FILTER to TDK DEA25 4 Pad Filter]

## JOHANSON BP15 4PAD FILTER
designator IC?, comment BP15
pins: 1 GND "Desc1", 2 OUT (out) "Desc1", 3 GND "Desc1", 4 IN (in) "Desc1"

## TAIYO YUDEN FAR-F6KA-1G5754-L4AB
designator IC?
GPS SAW Filter Taiyo Yuden
pins: 1 IN (io) "Desc1", 2 GND "Desc1", 3 GND "Desc1", 4 OUT (io) "Desc1", 5 GND "Desc1"

## TDK DEA25 4 Pad Filter
designator IC?, comment DEA25
Multilayer chip band pass filter
pins: 1 IN (in) "Desc1", 2 OUT (out) "Desc1", 3 GND "Desc1", 4 GND "Desc1"


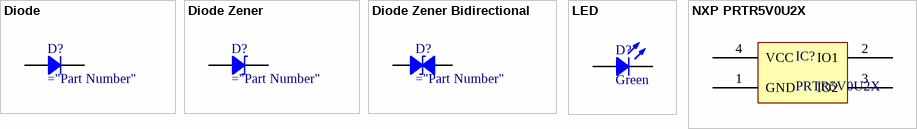
[diagram p17: symbols Diode to NXP PRTR5V0U2X]

## Diode
designator D?
Rectifier Diode
pins: 1, 2

## Diode Zener
designator D?
Zener Diode
pins: 1, 2

## Diode Zener Bidirectional
designator D?
Bidirectional Zener Diode
pins: 1, 2

## LED
designator D?, comment Green
Chip LED; Value: Green
pins: 1, 2

## NXP PRTR5V0U2X
designator IC?, comment PRTR5V0U2X
Ultra low capacitance double rail-to-rail ESD protection diode
pins: 1 GND, 2 IO1, 3 IO2, 4 VCC


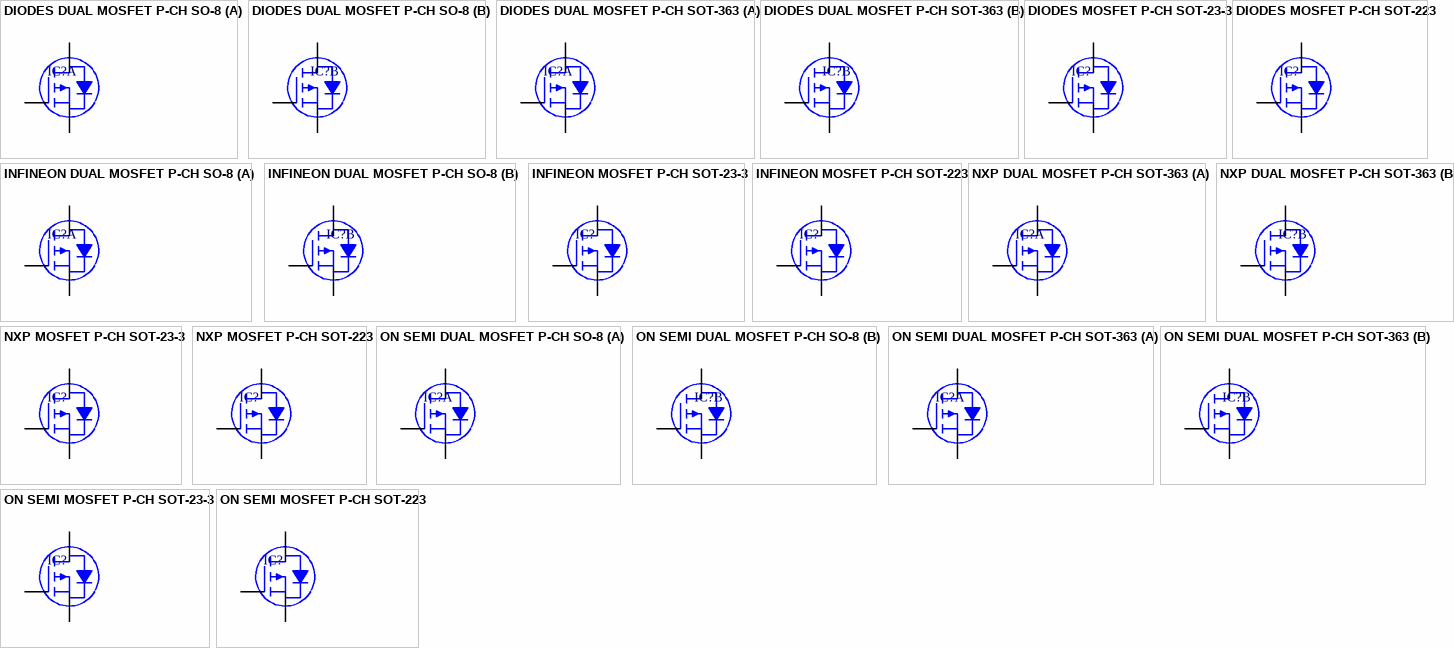
[diagram p18: symbols DIODES DUAL MOSFET P-CH SO-8 to ON SEMI MOSFET P-CH SOT-223]

## DIODES DUAL MOSFET P-CH SO-8
designator IC?
part A pins: 1 S1, 2 G1, 7 D1, 8 D1
part B pins: 3 S2, 4 G2, 5 D2, 6 D2

## DIODES DUAL MOSFET P-CH SOT-363
designator IC?
part A pins: 1 S1, 2 G1, 6 D1
part B pins: 3 D2, 4 S2, 5 G2

## DIODES MOSFET P-CH SOT-23-3
designator IC?
pins: 1 G, 2 D, 3 S

## DIODES MOSFET P-CH SOT-223
designator IC?
pins: 1 G, 2 D, 3 S, 4 D

## INFINEON DUAL MOSFET P-CH SO-8
designator IC?
part A pins: 1 S1, 2 G1, 7 D1, 8 D1
part B pins: 3 S2, 4 G2, 5 D2, 6 D2

## INFINEON MOSFET P-CH SOT-23-3
designator IC?
pins: 1 G, 2 D, 3 S

## INFINEON MOSFET P-CH SOT-223
designator IC?
pins: 1 G, 2 D, 3 S, 4 D

## NXP DUAL MOSFET P-CH SOT-363
designator IC?
part A pins: 1 S1, 2 G1, 6 D1
part B pins: 3 D2, 4 S2, 5 G2

## NXP MOSFET P-CH SOT-23-3
designator IC?
pins: 1 G, 2 D, 3 S

## NXP MOSFET P-CH SOT-223
designator IC?
pins: 1 G, 2 D, 3 S, 4 D

## ON SEMI DUAL MOSFET P-CH SO-8
designator IC?
part A pins: 1 S1, 2 G1, 7 D1, 8 D1
part B pins: 3 S2, 4 G2, 5 D2, 6 D2

## ON SEMI DUAL MOSFET P-CH SOT-363
designator IC?
part A pins: 1 S1, 2 G1, 6 D1
part B pins: 3 D2, 4 S2, 5 G2

## ON SEMI MOSFET P-CH SOT-23-3
designator IC?
pins: 1 G, 2 D, 3 S

## ON SEMI MOSFET P-CH SOT-223
designator IC?
pins: 1 G, 2 D, 3 S, 4 D


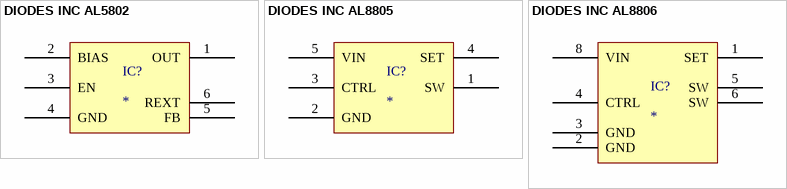
[diagram p19: symbols DIODES INC AL5802 to DIODES INC AL8806]

## DIODES INC AL5802
designator IC?
pins: 1 OUT, 2 BIAS, 3 EN, 4 GND, 5 FB, 6 REXT

## DIODES INC AL8805
designator IC?
pins: 1 SW, 2 GND, 3 CTRL, 4 SET, 5 VIN

## DIODES INC AL8806
designator IC?
pins: 1 SET, 2 GND, 3 GND, 4 CTRL, 5 SW, 6 SW, 8 VIN


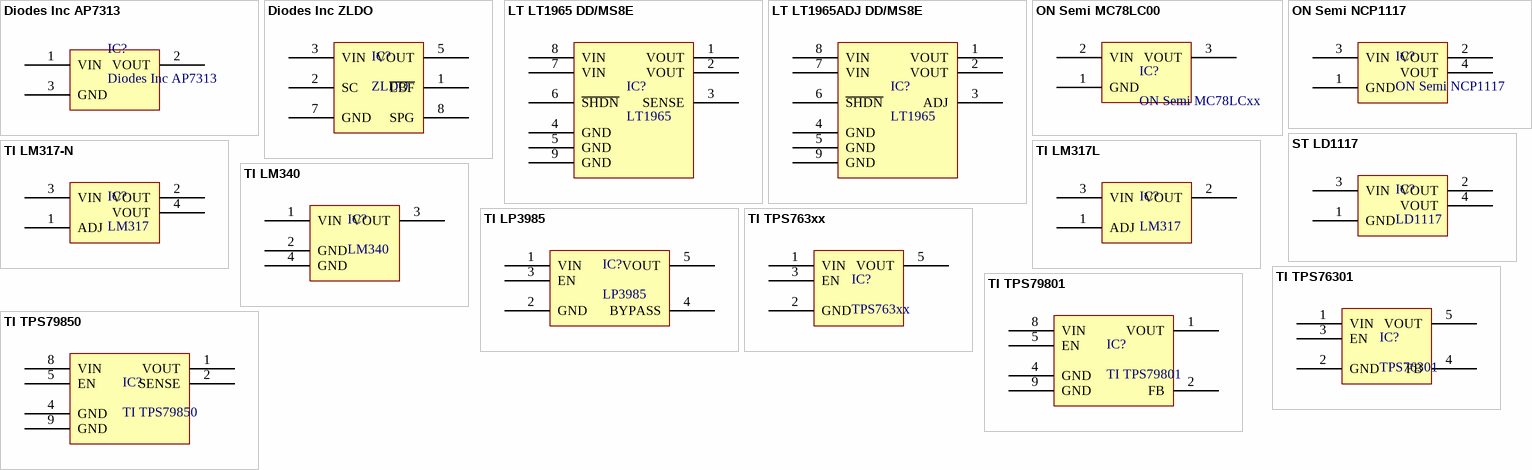
[diagram p20: symbols Diodes Inc AP7313 to TI TPS79850]

## Diodes Inc AP7313
designator IC?
150mA Low quiescent current fast transient low drop out linear regulator
pins: 1 VIN, 2 VOUT, 3 GND

## Diodes Inc ZLDO
designator IC?, comment ZLDO
Diodes Inc 5.0 VOLT ULTRA LOW DROPOUT  REGULATOR
pins: 1 ~{LBF} "Low Battery Flag", 2 SC "Shutdown Control", 3 VIN, 5 VOUT "1uF or greater", 7 GND, 8 SPG "Shaping - 10pF to Vout"

## LT LT1965 DD/MS8E
designator IC?, comment LT1965
1.1A, Low Noise, Low Dropout Linear Regulator
pins: 1 VOUT, 2 VOUT, 3 SENSE, 4 GND, 5 GND, 6 ~{SHDN}, 7 VIN, 8 VIN, 9 GND

## LT LT1965ADJ DD/MS8E
designator IC?, comment LT1965
1.1A, Low Noise, Low Dropout Linear Regulator
pins: 1 VOUT, 2 VOUT, 3 ADJ, 4 GND, 5 GND, 6 ~{SHDN}, 7 VIN, 8 VIN, 9 GND

## ON Semi MC78LC00
designator IC?, comment ON Semi MC78LCxx
Micropower Voltage  Regulator
pins: 1 GND, 2 VIN, 3 VOUT

## ON Semi NCP1117
designator IC?
1.0A Low-Dropout Positive Fixed and Adjustable Voltage Regulators
pins: 1 GND, 2 VOUT, 3 VIN, 4 VOUT

## ST LD1117
designator IC?, comment LD1117
Wide Temperature Three-Pin Adjustable Regulator
pins: 1 GND, 2 VOUT, 3 VIN, 4 VOUT

## TI LM317-N
designator IC?, comment LM317
Wide Temperature Three-Pin Adjustable Regulator
pins: 1 ADJ, 2 VOUT, 3 VIN, 4 VOUT

## TI LM317L
designator IC?, comment LM317
Wide Temperature Three-Pin Adjustable Regulator
pins: 1 ADJ, 2 VOUT, 3 VIN

## TI LM340
designator IC?, comment LM340
Wide Temperature Three-Pin Adjustable Regulator
pins: 1 VIN, 2 GND, 3 VOUT, 4 GND

## TI LP3985
designator IC?, comment LP3985
Micropower 150mA Low-Noise Ultra Low-Dropout CMOS Voltage Regulator
pins: 1 VIN, 2 GND, 3 EN, 4 BYPASS, 5 VOUT

## TI TPS763xx
designator IC?, comment TPS763xx
150mA Low-Dropout Regulator
pins: 1 VIN "Desc1", 2 GND "Desc1", 3 EN "Desc1", 5 VOUT "Desc1"

## TI TPS76301
designator IC?, comment TPS76301
150mA Low-Dropout Regulator
pins: 1 VIN "Desc1", 2 GND "Desc1", 3 EN "Desc1", 4 FB "Desc1", 5 VOUT "Desc1"

## TI TPS79801
designator IC?
50 mA, 3 V TO 50 V, MICROPOWER, LOW-DROPOUT LINEAR REGULATOR
pins: 1 VOUT, 2 FB, 4 GND, 5 EN, 8 VIN, 9 GND

## TI TPS79850
designator IC?
50 mA, 3 V TO 50 V, MICROPOWER, LOW-DROPOUT LINEAR REGULATOR
pins: 1 VOUT, 2 SENSE, 4 GND, 5 EN, 8 VIN, 9 GND


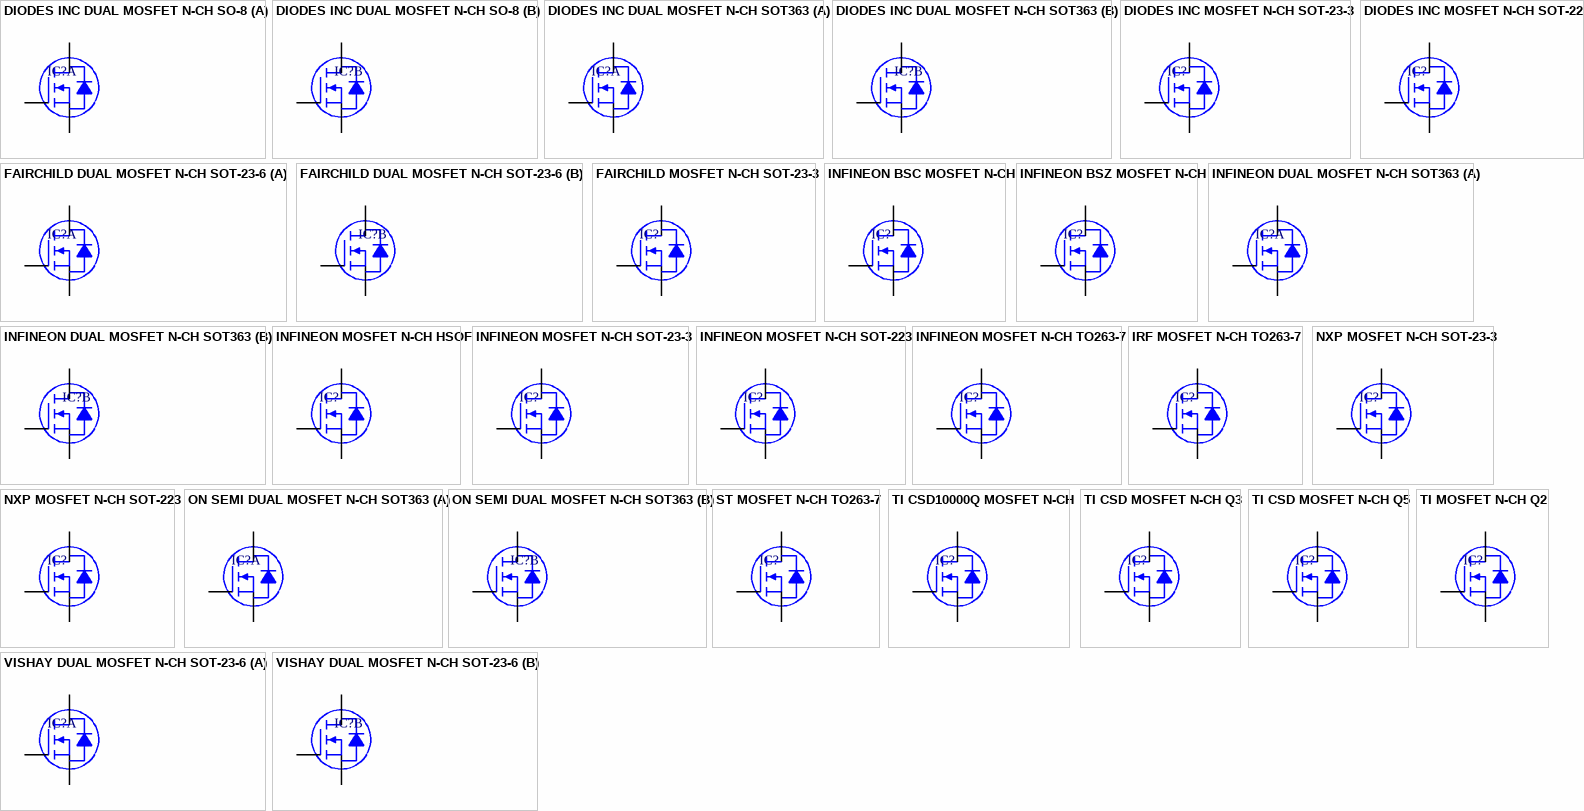
[diagram p21: symbols DIODES INC DUAL MOSFET N-CH SO-8 to VISHAY DUAL MOSFET N-CH SOT-23-6]

## DIODES INC DUAL MOSFET N-CH SO-8
designator IC?
part A pins: 1 S1, 2 G1, 7 D1, 8 D1
part B pins: 3 S2, 4 G2, 5 D2, 6 D2

## DIODES INC DUAL MOSFET N-CH SOT363
designator IC?
part A pins: 3 D1, 4 S1, 5 G1
part B pins: 1 S2, 2 G2, 6 D2

## DIODES INC MOSFET N-CH SOT-23-3
designator IC?
pins: 1 G, 2 D, 3 S

## DIODES INC MOSFET N-CH SOT-223
designator IC?
pins: 1 G, 2 D, 3 S, 4 D

## FAIRCHILD DUAL MOSFET N-CH SOT-23-6
designator IC?
part A pins: 1 G1, 5 S1, 6 D1
part B pins: 2 S2, 3 G2, 4 D2

## FAIRCHILD MOSFET N-CH SOT-23-3
designator IC?
pins: 1 G, 2 D, 3 S

## INFINEON BSC MOSFET N-CH
designator IC?
pins: 1 S, 2 S, 3 S, 4 G, 5 D, 6 D, 7 D, 8 D

## INFINEON BSZ MOSFET N-CH
designator IC?
pins: 1 S, 2 S, 3 S, 4 G, 5 D, 6 D, 7 D, 8 D

## INFINEON DUAL MOSFET N-CH SOT363
designator IC?
part A pins: 1 S1, 2 G1, 6 D1
part B pins: 3 D2, 4 S2, 5 G2

## INFINEON MOSFET N-CH HSOF
designator IC?
pins: 1 G, 2 S, 3 S, 4 S, 5 S, 6 S, 7 S, 8 S, 9 D

## INFINEON MOSFET N-CH SOT-23-3
designator IC?
pins: 1 G, 2 D, 3 S

## INFINEON MOSFET N-CH SOT-223
designator IC?
pins: 1 G, 2 D, 3 S, 4 D

## INFINEON MOSFET N-CH TO263-7
designator IC?
pins: 1 G, 2 S, 3 S, 5 S, 6 S, 7 S, 8 D

## IRF MOSFET N-CH TO263-7
designator IC?
pins: 1 G, 2 S, 3 S, 5 S, 6 S, 7 S, 8 D

## NXP MOSFET N-CH SOT-23-3
designator IC?
pins: 1 G, 2 D, 3 S

## NXP MOSFET N-CH SOT-223
designator IC?
pins: 1 G, 2 D, 3 S, 4 D

## ON SEMI DUAL MOSFET N-CH SOT363
designator IC?
part A pins: 1 S1, 2 G1, 6 D1
part B pins: 3 D2, 4 S2, 5 G2

## ST MOSFET N-CH TO263-7
designator IC?
pins: 1 G, 2 S, 3 S, 5 S, 6 S, 7 S, 8 D

## TI CSD10000Q MOSFET N-CH
designator IC?
pins: 1 S, 2 S, 3 S, 4 G, 5 D, 6 D, 7 D, 8 D

## TI CSD MOSFET N-CH Q3
designator IC?
pins: 1 S, 2 S, 3 S, 4 G, 5 D, 6 D, 7 D, 8 D

## TI CSD MOSFET N-CH Q5
designator IC?
pins: 1 S, 2 S, 3 S, 4 G, 5 D, 6 D, 7 D, 8 D

## TI MOSFET N-CH Q2
designator IC?
pins: 1 D, 1 5, 1 6, 1 8, 2 D, 3 G, 4 S, 7 S

## VISHAY DUAL MOSFET N-CH SOT-23-6
designator IC?
part A pins: 1 G1, 5 S1, 6 D1
part B pins: 2 S2, 3 G2, 4 D2


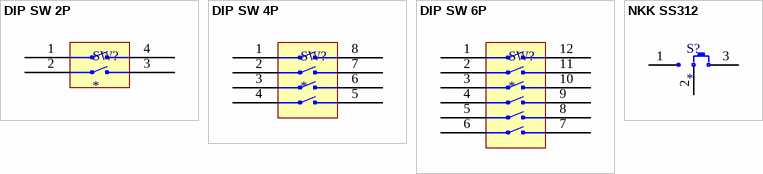
[diagram p22: symbols DIP SW 2P to NKK SS312]

## DIP SW 2P
designator SW?
pins: 1 GND, 2 GND, 3 GND, 4 GND

## DIP SW 4P
designator SW?
pins: 1 GND, 2 GND, 3 GND, 4 GND, 5, 6, 7, 8

## DIP SW 6P
designator SW?
pins: 1 GND, 2 GND, 3 GND, 4 GND, 5, 6, 7, 8, 9, 10, 11, 12

## NKK SS312
designator S?
pins: 1, 2 COM, 3
